# Altium schematic symbol library Jump.SchLib: 81 symbols
Pins are listed as number, name and electrical type; pins without a type are passive.

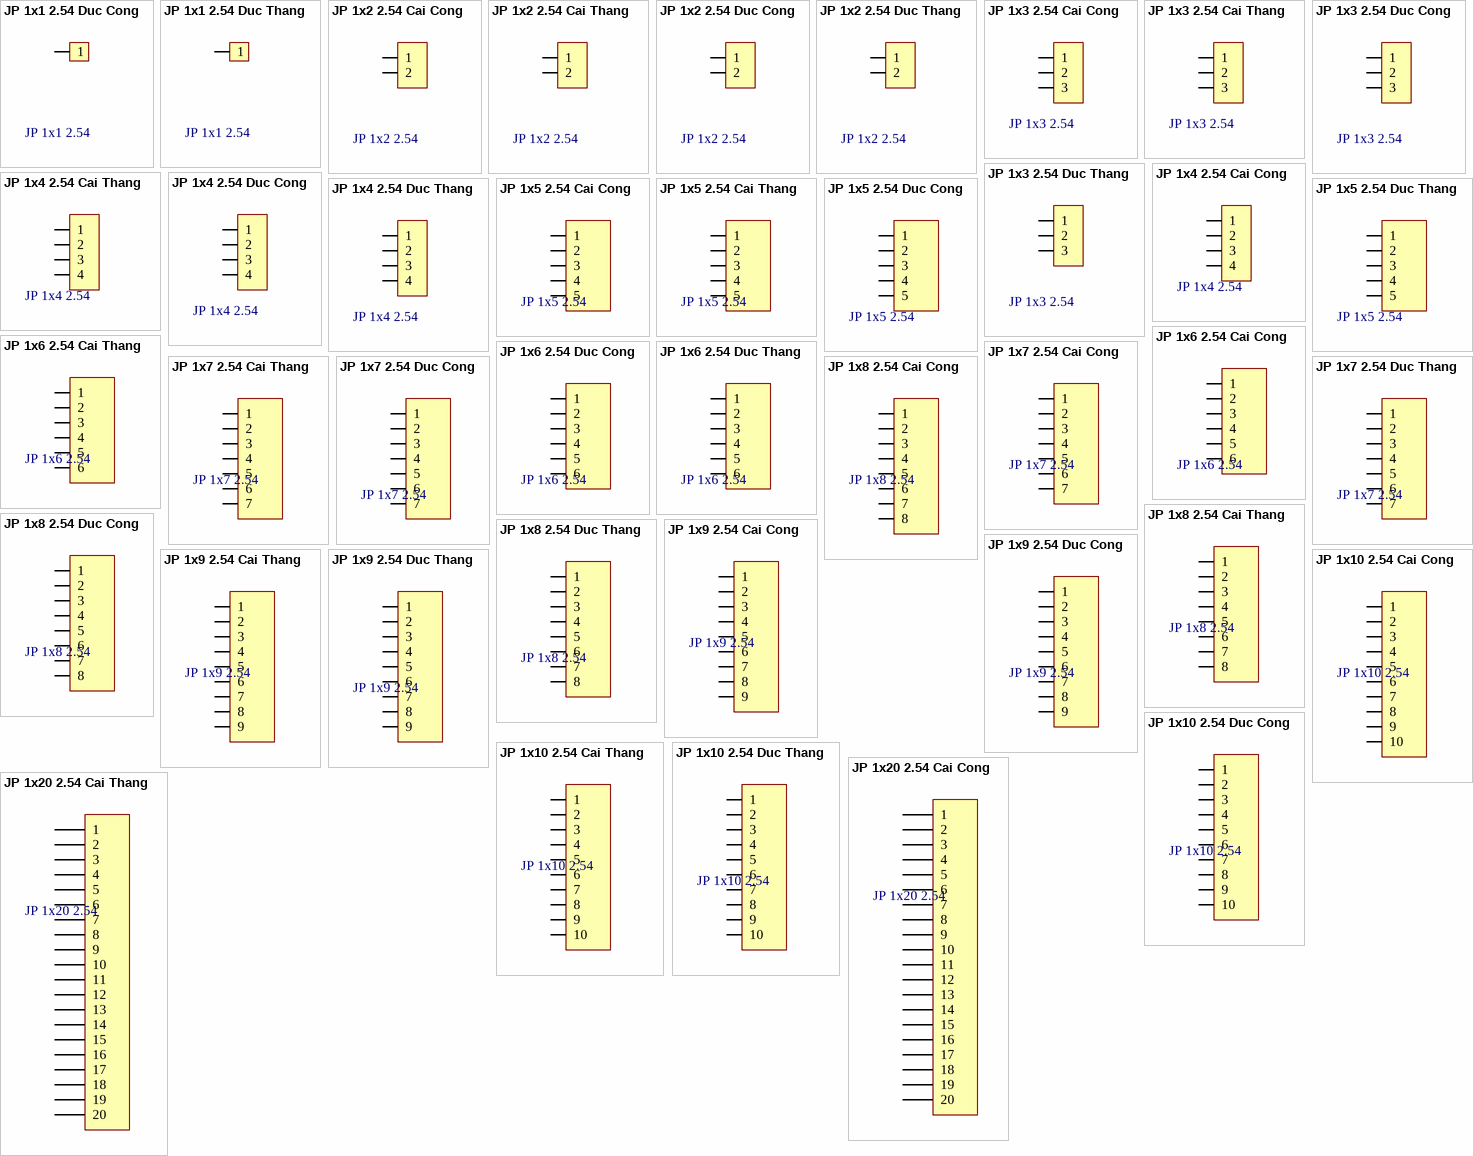
[diagram p0: symbols JP 1x1 2.54 Duc Cong to JP 1x20 2.54 Cai Thang]

## JP 1x1 2.54 Duc Cong
designator JP?, comment JP 1x1 2.54
Cắm; Ten_Linh_Kien: Jump Đơn Đực 2.54MM 1x40P Cong Đứng; Don_Vi: Con; Ma_Hang: MH000904; Ghi_Chu: *; Kieu_Chan: *; Chung_Loai: Cắm
footprint JP 1x1 DT
pins: 1

## JP 1x1 2.54 Duc Thang
designator JP?, comment JP 1x1 2.54
Cắm; Ten_Linh_Kien: Jump Đơn Đực 2.54MM 1x40P Thẳng 11MM; Don_Vi: Con; Ma_Hang: MH000903; Ghi_Chu: *; Kieu_Chan: *; Chung_Loai: Cắm
footprint JP 1x1 DT
pins: 1

## JP 1x2 2.54 Cai Cong
designator JP?, comment JP 1x2 2.54
Cắm; Ten_Linh_Kien: Jump Đơn Cái 2.54MM 1x40P Cong; Don_Vi: Con; Ma_Hang: MH001265; Ghi_Chu: *; Kieu_Chan: *; Chung_Loai: Cắm
footprint JP 1x2 CC
pins: 1, 2

## JP 1x2 2.54 Cai Thang
designator JP?, comment JP 1x2 2.54
Cắm; Ten_Linh_Kien: Jump Đơn Cái 2.54MM 1x20P Thẳng; Don_Vi: Con; Ma_Hang: MH004006; Ghi_Chu: *; Kieu_Chan: *; Chung_Loai: Cắm
footprint JP 1x2 CT
pins: 1, 2

## JP 1x2 2.54 Duc Cong
designator JP?, comment JP 1x2 2.54
Cắm; Ten_Linh_Kien: Jump Đơn Đực 2.54MM 1x40P Cong Đứng; Don_Vi: Con; Ma_Hang: MH000904; Ghi_Chu: *; Kieu_Chan: *; Chung_Loai: Cắm
footprint JP 1x2 DC
pins: 1, 2

## JP 1x2 2.54 Duc Thang
designator JP?, comment JP 1x2 2.54
Cắm; Ten_Linh_Kien: Jump Đơn Đực 2.54MM 1x40P Thẳng 11MM; Don_Vi: Con; Ma_Hang: MH000903; Ghi_Chu: *; Kieu_Chan: *; Chung_Loai: Cắm
footprint JP 1x2 DT (2 pins, 1 row, straight, gold plating)
pins: 1, 2

## JP 1x3 2.54 Cai Cong
designator JP?, comment JP 1x3 2.54
Cắm; Ten_Linh_Kien: Jump Đơn Cái 2.54MM 1x40P Cong; Don_Vi: Con; Ma_Hang: MH001265; Ghi_Chu: *; Kieu_Chan: *; Chung_Loai: Cắm
footprint JP 1x3 CC
pins: 1, 2, 3

## JP 1x3 2.54 Cai Thang
designator JP?, comment JP 1x3 2.54
Cắm; Ten_Linh_Kien: Jump Đơn Cái 2.54MM 1x20P Thẳng; Don_Vi: Con; Ma_Hang: MH004006; Ghi_Chu: *; Kieu_Chan: *; Chung_Loai: Cắm
footprint JP 1x3 CT
pins: 1, 2, 3

## JP 1x3 2.54 Duc Cong
designator JP?, comment JP 1x3 2.54
Cắm; Ten_Linh_Kien: Jump Đơn Đực 2.54MM 1x40P Cong Đứng; Don_Vi: Con; Ma_Hang: MH000904; Ghi_Chu: *; Kieu_Chan: *; Chung_Loai: Cắm
footprint JP 1x3 DC
pins: 1, 2, 3

## JP 1x3 2.54 Duc Thang
designator JP?, comment JP 1x3 2.54
Cắm; Ten_Linh_Kien: Jump Đơn Đực 2.54MM 1x40P Thẳng 11MM; Don_Vi: Con; Ma_Hang: MH000903; Ghi_Chu: *; Kieu_Chan: *; Chung_Loai: Cắm
footprint JP 1x3 DT
pins: 1, 2, 3

## JP 1x4 2.54 Cai Cong
designator JP?, comment JP 1x4 2.54
Cắm; Ten_Linh_Kien: Jump Đơn Cái 2.54MM 1x40P Cong; Don_Vi: Con; Ma_Hang: MH001265; Ghi_Chu: *; Kieu_Chan: *; Chung_Loai: Cắm
footprint JP 1x4 CC
pins: 1, 2, 3, 4

## JP 1x4 2.54 Cai Thang
designator JP?, comment JP 1x4 2.54
Cắm; Ten_Linh_Kien: Jump Đơn Cái 2.54MM 1x20P Thẳng; Don_Vi: Con; Ma_Hang: MH004006; Ghi_Chu: *; Kieu_Chan: *; Chung_Loai: Cắm
footprint JP 1x4 CT
pins: 1, 2, 3, 4

## JP 1x4 2.54 Duc Cong
designator JP?, comment JP 1x4 2.54
Cắm; Ten_Linh_Kien: Jump Đơn Đực 2.54MM 1x40P Cong Đứng; Don_Vi: Con; Ma_Hang: MH000904; Ghi_Chu: *; Kieu_Chan: *; Chung_Loai: Cắm
footprint JP 1x4 DC (4 pins, 1 row, right angled, gold plating)
pins: 1, 2, 3, 4

## JP 1x4 2.54 Duc Thang
designator JP?, comment JP 1x4 2.54
Cắm; Ten_Linh_Kien: Jump Đơn Đực 2.54MM 1x40P Thẳng 11MM; Don_Vi: Con; Ma_Hang: MH000903; Ghi_Chu: *; Kieu_Chan: *; Chung_Loai: Cắm
footprint JP 1x4 DT (4 pins, 1 row, straight, gold plating)
pins: 1, 2, 3, 4

## JP 1x5 2.54 Cai Cong
designator JP?, comment JP 1x5 2.54
Cắm; Ten_Linh_Kien: Jump Đơn Cái 2.54MM 1x40P Cong; Don_Vi: Con; Ma_Hang: MH001265; Ghi_Chu: *; Kieu_Chan: *; Chung_Loai: Cắm
footprint JP 1x5 CC
pins: 1, 2, 3, 4, 5

## JP 1x5 2.54 Cai Thang
designator JP?, comment JP 1x5 2.54
Cắm; Ten_Linh_Kien: Jump Đơn Cái 2.54MM 1x20P Thẳng; Don_Vi: Con; Ma_Hang: MH004006; Ghi_Chu: *; Kieu_Chan: *; Chung_Loai: Cắm
footprint JP 1x5 CT
pins: 1, 2, 3, 4, 5

## JP 1x5 2.54 Duc Cong
designator JP?, comment JP 1x5 2.54
Cắm; Ten_Linh_Kien: Jump Đơn Đực 2.54MM 1x40P Cong Đứng; Don_Vi: Con; Ma_Hang: MH000904; Ghi_Chu: *; Kieu_Chan: *; Chung_Loai: Cắm
footprint JP 1x5 DC (5 pins, 1 row, right angled, gold plating)
pins: 1, 2, 3, 4, 5

## JP 1x5 2.54 Duc Thang
designator JP?, comment JP 1x5 2.54
Cắm; Ten_Linh_Kien: Jump Đơn Đực 2.54MM 1x40P Thẳng 11MM; Don_Vi: Con; Ma_Hang: MH000903; Ghi_Chu: *; Kieu_Chan: *; Chung_Loai: Cắm
footprint JP 1x5 DT (5 pins, 1 row, straight, gold plating)
pins: 1, 2, 3, 4, 5

## JP 1x6 2.54 Cai Cong
designator JP?, comment JP 1x6 2.54
Cắm; Ten_Linh_Kien: Jump Đơn Cái 2.54MM 1x40P Cong; Don_Vi: Con; Ma_Hang: MH001265; Ghi_Chu: *; Kieu_Chan: *; Chung_Loai: Cắm
footprint JP 1x6 CC (06p 1 row Right angle)
pins: 1, 2, 3, 4, 5, 6

## JP 1x6 2.54 Cai Thang
designator JP?, comment JP 1x6 2.54
Cắm; Ten_Linh_Kien: Jump Đơn Cái 2.54MM 1x20P Thẳng; Don_Vi: Con; Ma_Hang: MH004006; Ghi_Chu: *; Kieu_Chan: *; Chung_Loai: Cắm
footprint JP 1x6 CT (6 row, straight, gold plating)
pins: 1, 2, 3, 4, 5, 6

## JP 1x6 2.54 Duc Cong
designator JP?, comment JP 1x6 2.54
Cắm; Ten_Linh_Kien: Jump Đơn Đực 2.54MM 1x40P Cong Đứng; Don_Vi: Con; Ma_Hang: MH000904; Ghi_Chu: *; Kieu_Chan: *; Chung_Loai: Cắm
footprint JP 1x6 DC (6 pins, 1 row, right angled, gold plating)
pins: 1, 2, 3, 4, 5, 6

## JP 1x6 2.54 Duc Thang
designator JP?, comment JP 1x6 2.54
Cắm; Ten_Linh_Kien: Jump Đơn Đực 2.54MM 1x40P Thẳng 11MM; Don_Vi: Con; Ma_Hang: MH000903; Ghi_Chu: *; Kieu_Chan: *; Chung_Loai: Cắm
footprint JP 1x6 DT (6 pins, 1 row, straight, gold plating)
pins: 1, 2, 3, 4, 5, 6

## JP 1x7 2.54 Cai Cong
designator JP?, comment JP 1x7 2.54
Cắm; Ten_Linh_Kien: Jump Đơn Cái 2.54MM 1x40P Cong; Don_Vi: Con; Ma_Hang: MH001265; Ghi_Chu: *; Kieu_Chan: *; Chung_Loai: Cắm
footprint JP 1x7 CC (07p 1 row Right angle)
pins: 1, 2, 3, 4, 5, 6, 7

## JP 1x7 2.54 Cai Thang
designator JP?, comment JP 1x7 2.54
Cắm; Ten_Linh_Kien: Jump Đơn Cái 2.54MM 1x20P Thẳng; Don_Vi: Con; Ma_Hang: MH004006; Ghi_Chu: *; Kieu_Chan: *; Chung_Loai: Cắm
footprint JP 1x7 CT (7 row, straight, gold plating)
pins: 1, 2, 3, 4, 5, 6, 7

## JP 1x7 2.54 Duc Cong
designator JP?, comment JP 1x7 2.54
Cắm; Ten_Linh_Kien: Jump Đơn Đực 2.54MM 1x40P Cong Đứng; Don_Vi: Con; Ma_Hang: MH000904; Ghi_Chu: *; Kieu_Chan: *; Chung_Loai: Cắm
footprint JP 1x7 DC (7 pins, 1 row, right angled, gold plating)
pins: 1, 2, 3, 4, 5, 6, 7

## JP 1x7 2.54 Duc Thang
designator JP?, comment JP 1x7 2.54
Cắm; Ten_Linh_Kien: Jump Đơn Đực 2.54MM 1x40P Thẳng 11MM; Don_Vi: Con; Ma_Hang: MH000903; Ghi_Chu: *; Kieu_Chan: *; Chung_Loai: Cắm
footprint JP 1x7 DT (7 pins, 1 row, straight, gold plating)
pins: 1, 2, 3, 4, 5, 6, 7

## JP 1x8 2.54 Cai Cong
designator JP?, comment JP 1x8 2.54
Cắm; Ten_Linh_Kien: Jump Đơn Cái 2.54MM 1x40P Cong; Don_Vi: Con; Ma_Hang: MH001265; Ghi_Chu: *; Kieu_Chan: *; Chung_Loai: Cắm
footprint JP 1x8 CC (08p 1 row Right angle)
pins: 1, 2, 3, 4, 5, 6, 7, 8

## JP 1x8 2.54 Cai Thang
designator JP?, comment JP 1x8 2.54
Cắm; Ten_Linh_Kien: Jump Đơn Cái 2.54MM 1x20P Thẳng; Don_Vi: Con; Ma_Hang: MH004006; Ghi_Chu: *; Kieu_Chan: *; Chung_Loai: Cắm
footprint JP 1x8 CT (8 row, straight, gold plating)
pins: 1, 2, 3, 4, 5, 6, 7, 8

## JP 1x8 2.54 Duc Cong
designator JP?, comment JP 1x8 2.54
Cắm; Ten_Linh_Kien: Jump Đơn Đực 2.54MM 1x40P Cong Đứng; Don_Vi: Con; Ma_Hang: MH000904; Ghi_Chu: *; Kieu_Chan: *; Chung_Loai: Cắm
footprint JP 1x8 DC (8 pins, 1 row, right angled, gold plating)
pins: 1, 2, 3, 4, 5, 6, 7, 8

## JP 1x8 2.54 Duc Thang
designator JP?, comment JP 1x8 2.54
Cắm; Ten_Linh_Kien: Jump Đơn Đực 2.54MM 1x40P Thẳng 11MM; Don_Vi: Con; Ma_Hang: MH000903; Ghi_Chu: *; Kieu_Chan: *; Chung_Loai: Cắm
footprint JP 1x8 DT (8 pins, 1 row, straight, gold plating)
pins: 1, 2, 3, 4, 5, 6, 7, 8

## JP 1x9 2.54 Cai Cong
designator JP?, comment JP 1x9 2.54
Cắm; Ten_Linh_Kien: Jump Đơn Cái 2.54MM 1x40P Cong; Don_Vi: Con; Ma_Hang: MH001265; Ghi_Chu: *; Kieu_Chan: *; Chung_Loai: Cắm
footprint JP 1x9 CC (09p 1 row Right angle)
pins: 1, 2, 3, 4, 5, 6, 7, 8, 9

## JP 1x9 2.54 Cai Thang
designator JP?, comment JP 1x9 2.54
Cắm; Ten_Linh_Kien: Jump Đơn Cái 2.54MM 1x20P Thẳng; Don_Vi: Con; Ma_Hang: MH004006; Ghi_Chu: *; Kieu_Chan: *; Chung_Loai: Cắm
footprint JP 1x9 CT (9 row, straight, gold plating)
pins: 1, 2, 3, 4, 5, 6, 7, 8, 9

## JP 1x9 2.54 Duc Cong
designator JP?, comment JP 1x9 2.54
Cắm; Ten_Linh_Kien: Jump Đơn Đực 2.54MM 1x40P Cong Đứng; Don_Vi: Con; Ma_Hang: MH000904; Ghi_Chu: *; Kieu_Chan: *; Chung_Loai: Cắm
footprint JP 1x9 DC (9 pins, 1 row, right angled, gold plating)
pins: 1, 2, 3, 4, 5, 6, 7, 8, 9

## JP 1x9 2.54 Duc Thang
designator JP?, comment JP 1x9 2.54
Cắm; Ten_Linh_Kien: Jump Đơn Đực 2.54MM 1x40P Thẳng 11MM; Don_Vi: Con; Ma_Hang: MH000903; Ghi_Chu: *; Kieu_Chan: *; Chung_Loai: Cắm
footprint JP 1x9 DT (9 pins, 1 row, straight, gold plating)
pins: 1, 2, 3, 4, 5, 6, 7, 8, 9

## JP 1x10 2.54 Cai Cong
designator JP?, comment JP 1x10 2.54
Cắm; Ten_Linh_Kien: Jump Đơn Cái 2.54MM 1x40P Cong; Don_Vi: Con; Ma_Hang: MH001265; Ghi_Chu: *; Kieu_Chan: *; Chung_Loai: Cắm
footprint JP 1x10 CC (10p 1 row Right angle)
pins: 1, 2, 3, 4, 5, 6, 7, 8, 9, 10

## JP 1x10 2.54 Cai Thang
designator JP?, comment JP 1x10 2.54
Cắm; Ten_Linh_Kien: Jump Đơn Cái 2.54MM 1x20P Thẳng; Don_Vi: Con; Ma_Hang: MH004006; Ghi_Chu: *; Kieu_Chan: *; Chung_Loai: Cắm
footprint JP 1x10 CT (10 row, straight, gold plating)
pins: 1, 2, 3, 4, 5, 6, 7, 8, 9, 10

## JP 1x10 2.54 Duc Cong
designator JP?, comment JP 1x10 2.54
Cắm; Ten_Linh_Kien: Jump Đơn Đực 2.54MM 1x40P Cong Đứng; Don_Vi: Con; Ma_Hang: MH000904; Ghi_Chu: *; Kieu_Chan: *; Chung_Loai: Cắm
footprint JP 1x10 DC (10 pins, 1 row, right angled, gold plating)
pins: 1, 2, 3, 4, 5, 6, 7, 8, 9, 10

## JP 1x10 2.54 Duc Thang
designator JP?, comment JP 1x10 2.54
Cắm; Ten_Linh_Kien: Jump Đơn Đực 2.54MM 1x40P Thẳng 11MM; Don_Vi: Con; Ma_Hang: MH000903; Ghi_Chu: *; Kieu_Chan: *; Chung_Loai: Cắm
footprint JP 1x10 DT (10 pins, 1 row, straight, gold plating)
pins: 1, 2, 3, 4, 5, 6, 7, 8, 9, 10

## JP 1x20 2.54 Cai Cong
designator JP?, comment JP 1x20 2.54
Cắm; Ten_Linh_Kien: Jump Đơn Cái 2.54MM 1x40P Cong; Don_Vi: Con; Ma_Hang: MH001265; Ghi_Chu: *; Kieu_Chan: *; Chung_Loai: Cắm
footprint JP 1x20 CC (20p 1 row Right angle)
pins: 1, 2, 3, 4, 5, 6, 7, 8, 9, 10, 11, 12, 13, 14, 15, 16, 17, 18, 19, 20

## JP 1x20 2.54 Cai Thang
designator JP?, comment JP 1x20 2.54
Cắm; Ten_Linh_Kien: Jump Đơn Cái 2.54MM 1x20P Thẳng; Don_Vi: Con; Ma_Hang: MH004006; Ghi_Chu: *; Kieu_Chan: *; Chung_Loai: Cắm
footprint JP 1x20 CT (20 row, straight, gold plating)
pins: 1, 2, 3, 4, 5, 6, 7, 8, 9, 10, 11, 12, 13, 14, 15, 16, 17, 18, 19, 20

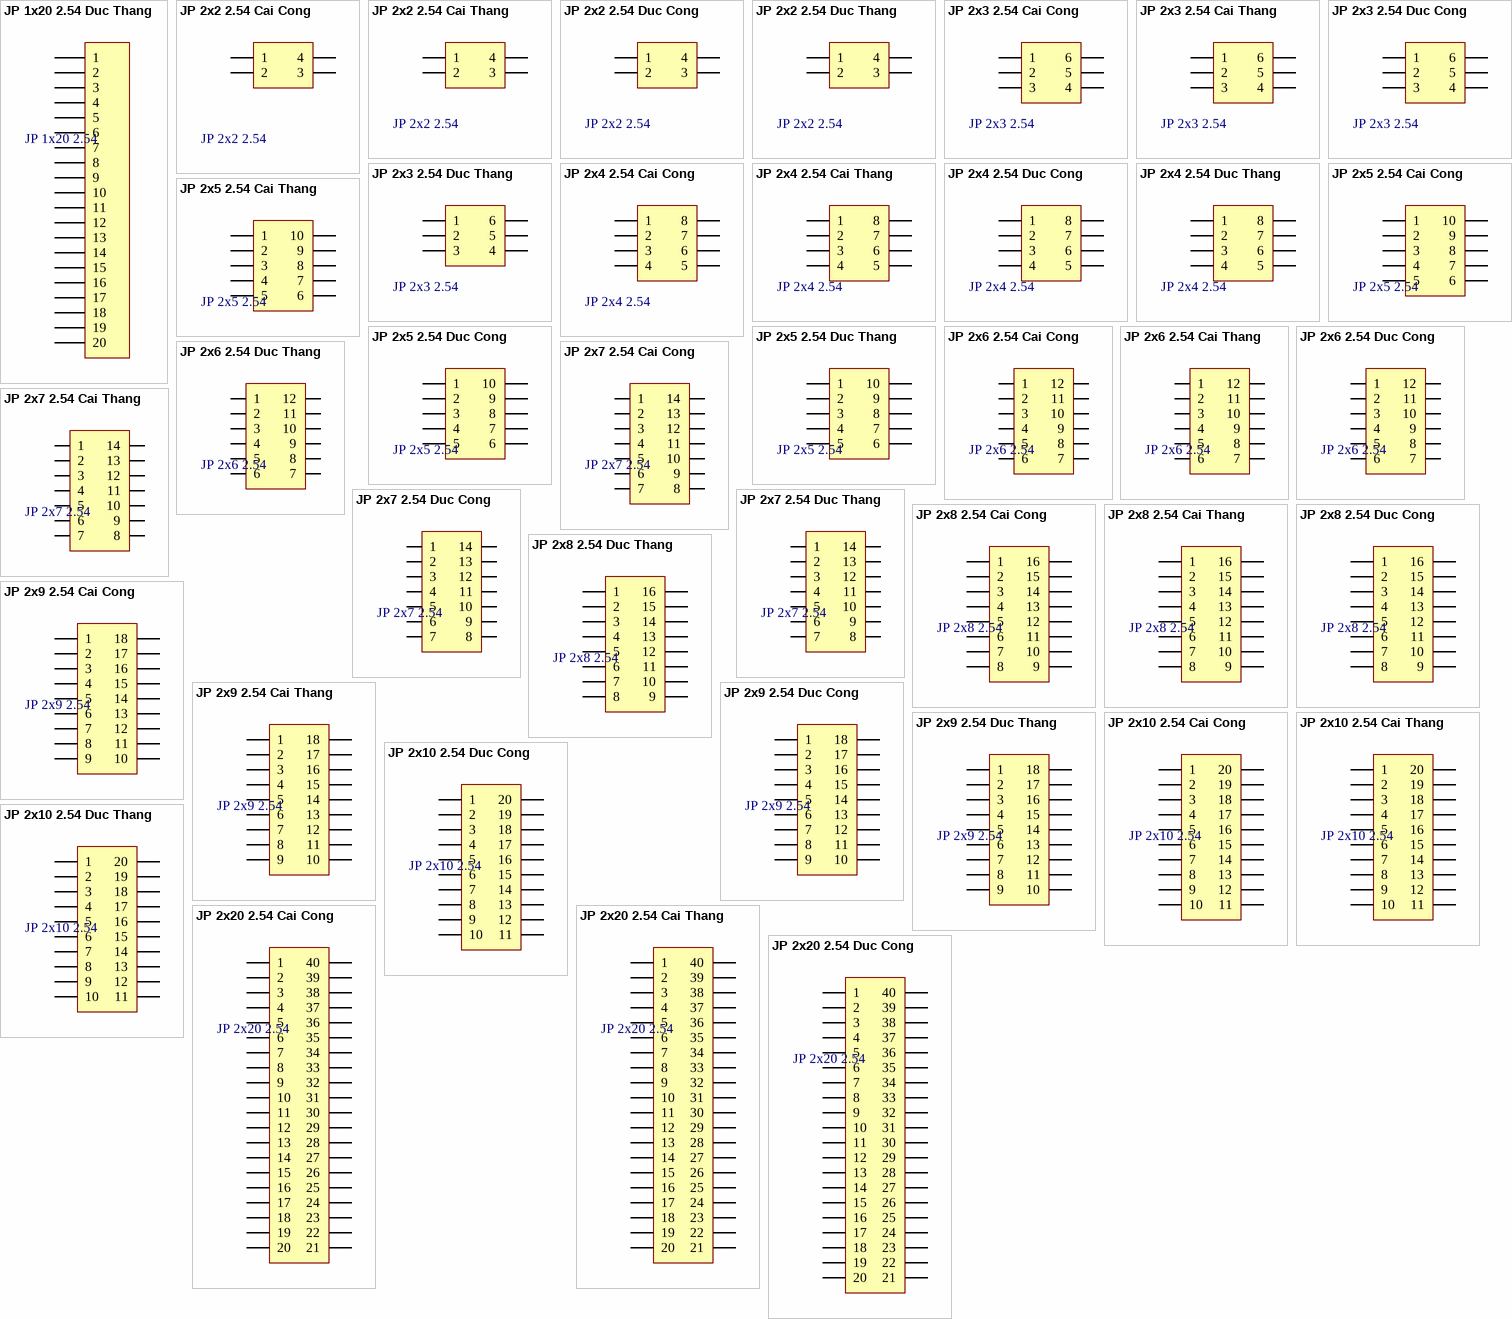
[diagram p1: symbols JP 1x20 2.54 Duc Thang to JP 2x20 2.54 Duc Cong]

## JP 1x20 2.54 Duc Thang
designator JP?, comment JP 1x20 2.54
Cắm; Ten_Linh_Kien: Jump Đơn Đực 2.54MM 1x40P Thẳng 11MM; Don_Vi: Con; Ma_Hang: MH000903; Ghi_Chu: *; Kieu_Chan: *; Chung_Loai: Cắm
footprint JP 1x20 DT (20 pins, 1 row, straight, gold plating)
pins: 1, 2, 3, 4, 5, 6, 7, 8, 9, 10, 11, 12, 13, 14, 15, 16, 17, 18, 19, 20

## JP 2x2 2.54 Cai Cong
designator JP?, comment JP 2x2 2.54
Cắm; Ten_Linh_Kien: Jump Đôi Cái 2.54MM 2x40P Cong; Don_Vi: Con; Ma_Hang: MH001274; Ghi_Chu: *; Kieu_Chan: *; Chung_Loai: Cắm
footprint JP 2x2 CC
pins: 1, 2, 3, 4

## JP 2x2 2.54 Cai Thang
designator JP?, comment JP 2x2 2.54
Cắm; Ten_Linh_Kien: Jump Đôi Cái 2.54MM 2x20P Thẳng; Don_Vi: Con; Ma_Hang: MH008647; Ghi_Chu: *; Kieu_Chan: *; Chung_Loai: Cắm
footprint JP 2x2 CT
pins: 1, 2, 3, 4

## JP 2x2 2.54 Duc Cong
designator JP?, comment JP 2x2 2.54
Cắm; Ten_Linh_Kien: Jump Đôi Đực 2.54MM 2x40P Cong; Don_Vi: Con; Ma_Hang: MH005385; Ghi_Chu: *; Kieu_Chan: *; Chung_Loai: Cắm
footprint JP 2x2 DC
pins: 1, 2, 3, 4

## JP 2x2 2.54 Duc Thang
designator JP?, comment JP 2x2 2.54
Cắm; Ten_Linh_Kien: Jump Đôi Đực 2.54MM 2x40P Thẳng 11MM; Don_Vi: Con; Ma_Hang: MH002686; Ghi_Chu: *; Kieu_Chan: *; Chung_Loai: Cắm
footprint JP 2x2 DT
pins: 1, 2, 3, 4

## JP 2x3 2.54 Cai Cong
designator JP?, comment JP 2x3 2.54
Cắm; Ten_Linh_Kien: Jump Đôi Cái 2.54MM 2x40P Cong; Don_Vi: Con; Ma_Hang: MH001274; Ghi_Chu: *; Kieu_Chan: *; Chung_Loai: Cắm
footprint JP 2x3 CC
pins: 1, 2, 3, 4, 5, 6

## JP 2x3 2.54 Cai Thang
designator JP?, comment JP 2x3 2.54
Cắm; Ten_Linh_Kien: Jump Đôi Cái 2.54MM 2x20P Thẳng; Don_Vi: Con; Ma_Hang: MH008647; Ghi_Chu: *; Kieu_Chan: *; Chung_Loai: Cắm
footprint JP 2x3 CT
pins: 1, 2, 3, 4, 5, 6

## JP 2x3 2.54 Duc Cong
designator JP?, comment JP 2x3 2.54
Cắm; Ten_Linh_Kien: Jump Đôi Đực 2.54MM 2x40P Cong; Don_Vi: Con; Ma_Hang: MH005385; Ghi_Chu: *; Kieu_Chan: *; Chung_Loai: Cắm
footprint JP 2x3 DC
pins: 1, 2, 3, 4, 5, 6

## JP 2x3 2.54 Duc Thang
designator JP?, comment JP 2x3 2.54
Cắm; Ten_Linh_Kien: Jump Đôi Đực 2.54MM 2x40P Thẳng 11MM; Don_Vi: Con; Ma_Hang: MH002686; Ghi_Chu: *; Kieu_Chan: *; Chung_Loai: Cắm
footprint JP 2x3 DT
pins: 1, 2, 3, 4, 5, 6

## JP 2x4 2.54 Cai Cong
designator JP?, comment JP 2x4 2.54
Cắm; Ten_Linh_Kien: Jump Đôi Cái 2.54MM 2x40P Cong; Don_Vi: Con; Ma_Hang: MH001274; Ghi_Chu: *; Kieu_Chan: *; Chung_Loai: Cắm
footprint JP 2X4 CC (08p 2 rows Right angle)
pins: 1, 2, 3, 4, 5, 6, 7, 8

## JP 2x4 2.54 Cai Thang
designator JP?, comment JP 2x4 2.54
Cắm; Ten_Linh_Kien: Jump Đôi Cái 2.54MM 2x20P Thẳng; Don_Vi: Con; Ma_Hang: MH008647; Ghi_Chu: *; Kieu_Chan: *; Chung_Loai: Cắm
footprint JP 2x4 CT (8 pins, dual row, straight, gold plating)
pins: 1, 2, 3, 4, 5, 6, 7, 8

## JP 2x4 2.54 Duc Cong
designator JP?, comment JP 2x4 2.54
Cắm; Ten_Linh_Kien: Jump Đôi Đực 2.54MM 2x40P Cong; Don_Vi: Con; Ma_Hang: MH005385; Ghi_Chu: *; Kieu_Chan: *; Chung_Loai: Cắm
footprint JP 2x4 DC (08 pins, dual row, right angled, gold plating)
pins: 1, 2, 3, 4, 5, 6, 7, 8

## JP 2x4 2.54 Duc Thang
designator JP?, comment JP 2x4 2.54
Cắm; Ten_Linh_Kien: Jump Đôi Đực 2.54MM 2x40P Thẳng 11MM; Don_Vi: Con; Ma_Hang: MH002686; Ghi_Chu: *; Kieu_Chan: *; Chung_Loai: Cắm
footprint JP 2x4 DT
pins: 1, 2, 3, 4, 5, 6, 7, 8

## JP 2x5 2.54 Cai Cong
designator JP?, comment JP 2x5 2.54
Cắm; Ten_Linh_Kien: Jump Đôi Cái 2.54MM 2x40P Cong; Don_Vi: Con; Ma_Hang: MH001274; Ghi_Chu: *; Kieu_Chan: *; Chung_Loai: Cắm
footprint JP 2X5 CC (10p 2 rows Right angle)
pins: 1, 2, 3, 4, 5, 6, 7, 8, 9, 10

## JP 2x5 2.54 Cai Thang
designator JP?, comment JP 2x5 2.54
Cắm; Ten_Linh_Kien: Jump Đôi Cái 2.54MM 2x20P Thẳng; Don_Vi: Con; Ma_Hang: MH008647; Ghi_Chu: *; Kieu_Chan: *; Chung_Loai: Cắm
footprint JP 2x5 CT (10 pins, dual row, straight, gold plating)
pins: 1, 2, 3, 4, 5, 6, 7, 8, 9, 10

## JP 2x5 2.54 Duc Cong
designator JP?, comment JP 2x5 2.54
Cắm; Ten_Linh_Kien: Jump Đôi Đực 2.54MM 2x40P Cong; Don_Vi: Con; Ma_Hang: MH005385; Ghi_Chu: *; Kieu_Chan: *; Chung_Loai: Cắm
footprint JP 2x5 DC (10 pins, dual row, right angled, gold plating)
pins: 1, 2, 3, 4, 5, 6, 7, 8, 9, 10

## JP 2x5 2.54 Duc Thang
designator JP?, comment JP 2x5 2.54
Cắm; Ten_Linh_Kien: Jump Đôi Đực 2.54MM 2x40P Thẳng 11MM; Don_Vi: Con; Ma_Hang: MH002686; Ghi_Chu: *; Kieu_Chan: *; Chung_Loai: Cắm
footprint JP 2x5 DT (10 pins, dual pin, straight, gold plating)
pins: 1, 2, 3, 4, 5, 6, 7, 8, 9, 10

## JP 2x6 2.54 Cai Cong
designator JP?, comment JP 2x6 2.54
Cắm; Ten_Linh_Kien: Jump Đôi Cái 2.54MM 2x40P Cong; Don_Vi: Con; Ma_Hang: MH001274; Ghi_Chu: *; Kieu_Chan: *; Chung_Loai: Cắm
footprint JP 2X6 CC (12p 2 rows Right angle)
pins: 1, 2, 3, 4, 5, 6, 7, 8, 9, 10, 11, 12

## JP 2x6 2.54 Cai Thang
designator JP?, comment JP 2x6 2.54
Cắm; Ten_Linh_Kien: Jump Đôi Cái 2.54MM 2x20P Thẳng; Don_Vi: Con; Ma_Hang: MH008647; Ghi_Chu: *; Kieu_Chan: *; Chung_Loai: Cắm
footprint JP 2x6 CT (12 pins, dual row, straight, gold plating)
pins: 1, 2, 3, 4, 5, 6, 7, 8, 9, 10, 11, 12

## JP 2x6 2.54 Duc Cong
designator JP?, comment JP 2x6 2.54
Cắm; Ten_Linh_Kien: Jump Đôi Đực 2.54MM 2x40P Cong; Don_Vi: Con; Ma_Hang: MH005385; Ghi_Chu: *; Kieu_Chan: *; Chung_Loai: Cắm
footprint JP 2x6 DC (12 pins, dual row, right angled, gold plating)
pins: 1, 2, 3, 4, 5, 6, 7, 8, 9, 10, 11, 12

## JP 2x6 2.54 Duc Thang
designator JP?, comment JP 2x6 2.54
Cắm; Ten_Linh_Kien: Jump Đôi Đực 2.54MM 2x40P Thẳng 11MM; Don_Vi: Con; Ma_Hang: MH002686; Ghi_Chu: *; Kieu_Chan: *; Chung_Loai: Cắm
footprint JP 2x6 DT (12 pins, dual pin, straight, gold plating)
pins: 1, 2, 3, 4, 5, 6, 7, 8, 9, 10, 11, 12

## JP 2x7 2.54 Cai Cong
designator JP?, comment JP 2x7 2.54
Cắm; Ten_Linh_Kien: Jump Đôi Cái 2.54MM 2x40P Cong; Don_Vi: Con; Ma_Hang: MH001274; Ghi_Chu: *; Kieu_Chan: *; Chung_Loai: Cắm
footprint JP 2X7 CC (14p 2 rows Right angle)
pins: 1, 2, 3, 4, 5, 6, 7, 8, 9, 10, 11, 12, 13, 14

## JP 2x7 2.54 Cai Thang
designator JP?, comment JP 2x7 2.54
Cắm; Ten_Linh_Kien: Jump Đôi Cái 2.54MM 2x20P Thẳng; Don_Vi: Con; Ma_Hang: MH008647; Ghi_Chu: *; Kieu_Chan: *; Chung_Loai: Cắm
footprint JP 2x7 CT (14 pins, dual row, straight, gold plating)
pins: 1, 2, 3, 4, 5, 6, 7, 8, 9, 10, 11, 12, 13, 14

## JP 2x7 2.54 Duc Cong
designator JP?, comment JP 2x7 2.54
Cắm; Ten_Linh_Kien: Jump Đôi Đực 2.54MM 2x40P Cong; Don_Vi: Con; Ma_Hang: MH005385; Ghi_Chu: *; Kieu_Chan: *; Chung_Loai: Cắm
footprint JP 2x7 DC (14 pins, dual row, right angled, gold plating)
pins: 1, 2, 3, 4, 5, 6, 7, 8, 9, 10, 11, 12, 13, 14

## JP 2x7 2.54 Duc Thang
designator JP?, comment JP 2x7 2.54
Cắm; Ten_Linh_Kien: Jump Đôi Đực 2.54MM 2x40P Thẳng 11MM; Don_Vi: Con; Ma_Hang: MH002686; Ghi_Chu: *; Kieu_Chan: *; Chung_Loai: Cắm
footprint JP 2x7 DT (14 pins, dual pin, straight, gold plating)
pins: 1, 2, 3, 4, 5, 6, 7, 8, 9, 10, 11, 12, 13, 14

## JP 2x8 2.54 Cai Cong
designator JP?, comment JP 2x8 2.54
Cắm; Ten_Linh_Kien: Jump Đôi Cái 2.54MM 2x40P Cong; Don_Vi: Con; Ma_Hang: MH001274; Ghi_Chu: *; Kieu_Chan: *; Chung_Loai: Cắm
footprint JP 2X8 CC (16p 2 rows Right angle)
pins: 1, 2, 3, 4, 5, 6, 7, 8, 9, 10, 11, 12, 13, 14, 15, 16

## JP 2x8 2.54 Cai Thang
designator JP?, comment JP 2x8 2.54
Cắm; Ten_Linh_Kien: Jump Đôi Cái 2.54MM 2x20P Thẳng; Don_Vi: Con; Ma_Hang: MH008647; Ghi_Chu: *; Kieu_Chan: *; Chung_Loai: Cắm
footprint JP 2x8 CT (16 pins, dual row, straight, gold plating)
pins: 1, 2, 3, 4, 5, 6, 7, 8, 9, 10, 11, 12, 13, 14, 15, 16

## JP 2x8 2.54 Duc Cong
designator JP?, comment JP 2x8 2.54
Cắm; Ten_Linh_Kien: Jump Đôi Đực 2.54MM 2x40P Cong; Don_Vi: Con; Ma_Hang: MH005385; Ghi_Chu: *; Kieu_Chan: *; Chung_Loai: Cắm
footprint JP 2x8 DC (16 pins, dual row, right angled, gold plating)
pins: 1, 2, 3, 4, 5, 6, 7, 8, 9, 10, 11, 12, 13, 14, 15, 16

## JP 2x8 2.54 Duc Thang
designator JP?, comment JP 2x8 2.54
Cắm; Ten_Linh_Kien: Jump Đôi Đực 2.54MM 2x40P Thẳng 11MM; Don_Vi: Con; Ma_Hang: MH002686; Ghi_Chu: *; Kieu_Chan: *; Chung_Loai: Cắm
footprint JP 2x8 DT (16 pins, dual pin, straight, gold plating)
pins: 1, 2, 3, 4, 5, 6, 7, 8, 9, 10, 11, 12, 13, 14, 15, 16

## JP 2x9 2.54 Cai Cong
designator JP?, comment JP 2x9 2.54
Cắm; Ten_Linh_Kien: Jump Đôi Cái 2.54MM 2x40P Cong; Don_Vi: Con; Ma_Hang: MH001274; Ghi_Chu: *; Kieu_Chan: *; Chung_Loai: Cắm
footprint JP 2X9 CC (18p 2 rows Right angle)
pins: 1, 2, 3, 4, 5, 6, 7, 8, 9, 10, 11, 12, 13, 14, 15, 16, 17, 18

## JP 2x9 2.54 Cai Thang
designator JP?, comment JP 2x9 2.54
Cắm; Ten_Linh_Kien: Jump Đôi Cái 2.54MM 2x20P Thẳng; Don_Vi: Con; Ma_Hang: MH008647; Ghi_Chu: *; Kieu_Chan: *; Chung_Loai: Cắm
footprint JP 2x9 CT (18 pins, dual row, straight, gold plating)
pins: 1, 2, 3, 4, 5, 6, 7, 8, 9, 10, 11, 12, 13, 14, 15, 16, 17, 18

## JP 2x9 2.54 Duc Cong
designator JP?, comment JP 2x9 2.54
Cắm; Ten_Linh_Kien: Jump Đôi Đực 2.54MM 2x40P Cong; Don_Vi: Con; Ma_Hang: MH005385; Ghi_Chu: *; Kieu_Chan: *; Chung_Loai: Cắm
footprint JP 2x9 DC (18 pins, dual row, right angled, gold plating)
pins: 1, 2, 3, 4, 5, 6, 7, 8, 9, 10, 11, 12, 13, 14, 15, 16, 17, 18

## JP 2x9 2.54 Duc Thang
designator JP?, comment JP 2x9 2.54
Cắm; Ten_Linh_Kien: Jump Đôi Đực 2.54MM 2x40P Thẳng 11MM; Don_Vi: Con; Ma_Hang: MH002686; Ghi_Chu: *; Kieu_Chan: *; Chung_Loai: Cắm
footprint JP 2x9 DT (18 pins, dual pin, straight, gold plating)
pins: 1, 2, 3, 4, 5, 6, 7, 8, 9, 10, 11, 12, 13, 14, 15, 16, 17, 18

## JP 2x10 2.54 Cai Cong
designator JP?, comment JP 2x10 2.54
Cắm; Ten_Linh_Kien: Jump Đôi Cái 2.54MM 2x40P Cong; Don_Vi: Con; Ma_Hang: MH001274; Ghi_Chu: *; Kieu_Chan: *; Chung_Loai: Cắm
footprint JP 2x10 CC (20p 2 rows Right angle)
pins: 1, 2, 3, 4, 5, 6, 7, 8, 9, 10, 11, 12, 13, 14, 15, 16, 17, 18, 19, 20

## JP 2x10 2.54 Cai Thang
designator JP?, comment JP 2x10 2.54
Cắm; Ten_Linh_Kien: Jump Đôi Cái 2.54MM 2x20P Thẳng; Don_Vi: Con; Ma_Hang: MH008647; Ghi_Chu: *; Kieu_Chan: *; Chung_Loai: Cắm
footprint JP 2x10 CT (20 pins, dual row, straight, gold plating)
pins: 1, 2, 3, 4, 5, 6, 7, 8, 9, 10, 11, 12, 13, 14, 15, 16, 17, 18, 19, 20

## JP 2x10 2.54 Duc Cong
designator JP?, comment JP 2x10 2.54
Cắm; Ten_Linh_Kien: Jump Đôi Đực 2.54MM 2x40P Cong; Don_Vi: Con; Ma_Hang: MH005385; Ghi_Chu: *; Kieu_Chan: *; Chung_Loai: Cắm
footprint JP 2x10 DC (20 pins, dual row, right angled, gold plating)
pins: 1, 2, 3, 4, 5, 6, 7, 8, 9, 10, 11, 12, 13, 14, 15, 16, 17, 18, 19, 20

## JP 2x10 2.54 Duc Thang
designator JP?, comment JP 2x10 2.54
Cắm; Ten_Linh_Kien: Jump Đôi Đực 2.54MM 2x40P Thẳng 11MM; Don_Vi: Con; Ma_Hang: MH002686; Ghi_Chu: *; Kieu_Chan: *; Chung_Loai: Cắm
footprint JP 2x10 DT (20 pins, dual pin, straight, gold plating)
pins: 1, 2, 3, 4, 5, 6, 7, 8, 9, 10, 11, 12, 13, 14, 15, 16, 17, 18, 19, 20

## JP 2x20 2.54 Cai Cong
designator JP?, comment JP 2x20 2.54
Cắm; Ten_Linh_Kien: Jump Đôi Cái 2.54MM 2x40P Cong; Don_Vi: Con; Ma_Hang: MH001274; Ghi_Chu: *; Kieu_Chan: *; Chung_Loai: Cắm
footprint JP 2x20 CC (40p 2 rows Right angle)
pins: 1, 2, 3, 4, 5, 6, 7, 8, 9, 10, 11, 12, 13, 14, 15, 16, 17, 18, 19, 20, 21, 22, 23, 24, 25, 26, 27, 28, 29, 30, 31, 32, 33, 34, 35, 36, 37, 38, 39, 40

## JP 2x20 2.54 Cai Thang
designator JP?, comment JP 2x20 2.54
Cắm; Ten_Linh_Kien: Jump Đôi Cái 2.54MM 2x20P Thẳng; Don_Vi: Con; Ma_Hang: MH008647; Ghi_Chu: *; Kieu_Chan: *; Chung_Loai: Cắm
footprint JP 2x20 CT (40 pins, dual row, straight, gold plating)
pins: 1, 2, 3, 4, 5, 6, 7, 8, 9, 10, 11, 12, 13, 14, 15, 16, 17, 18, 19, 20, 21, 22, 23, 24, 25, 26, 27, 28, 29, 30, 31, 32, 33, 34, 35, 36, 37, 38, 39, 40

## JP 2x20 2.54 Duc Cong
designator JP?, comment JP 2x20 2.54
Cắm; Ten_Linh_Kien: Jump Đôi Đực 2.54MM 2x40P Cong; Don_Vi: Con; Ma_Hang: MH005385; Ghi_Chu: *; Kieu_Chan: *; Chung_Loai: Cắm
footprint JP 2x20 DC (40 pins, dual row, right angled, gold plating)
pins: 1, 2, 3, 4, 5, 6, 7, 8, 9, 10, 11, 12, 13, 14, 15, 16, 17, 18, 19, 20, 21, 22, 23, 24, 25, 26, 27, 28, 29, 30, 31, 32, 33, 34, 35, 36, 37, 38, 39, 40

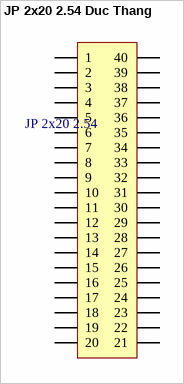
[diagram p2: symbol JP 2x20 2.54 Duc Thang]

## JP 2x20 2.54 Duc Thang
designator JP?, comment JP 2x20 2.54
Cắm; Ten_Linh_Kien: Jump Đôi Đực 2.54MM 2x40P Thẳng 11MM; Don_Vi: Con; Ma_Hang: MH002686; Ghi_Chu: *; Kieu_Chan: *; Chung_Loai: Cắm
footprint JP 2x20 DT (40 pins, dual pin, straight, gold plating)
pins: 1, 2, 3, 4, 5, 6, 7, 8, 9, 10, 11, 12, 13, 14, 15, 16, 17, 18, 19, 20, 21, 22, 23, 24, 25, 26, 27, 28, 29, 30, 31, 32, 33, 34, 35, 36, 37, 38, 39, 40